# EAGLE library part MP20046DNS (library custom-devices)
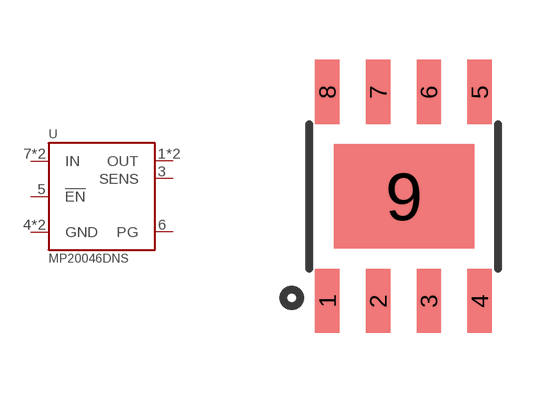
[diagram p44: symbol with the pads of SOIC8E; footprint SOIC8E]

Designator prefix U

## MP20046DNS  [SOIC8E]
1  OUT
2  OUT
3  SENS
4  GND
5  !EN!
6  PG
7  IN
8  IN
9  GND

## Footprint SOIC8E (pad centres in mm)
smd 0.61 x 1.6: 1 -1.923,-2.616; 2 -0.652,-2.616; 3 0.618,-2.616; 4 1.887,-2.616; 5 1.887,2.616; 6 0.618,2.616; 7 -0.652,2.616; 8 -1.923,2.616
smd 3.505 x 2.616: 9 0,0